# Altium integrated library CFR16J1K0.IntLib: 1 symbol
Pins are listed as number, name and electrical type; pins without a type are passive.

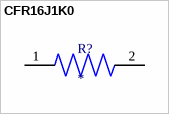
[diagram p0: symbol CFR16J1K0]

## CFR16J1K0
designator R?
1 kOhms Â±5% 0.25W, 1/4W Through Hole Resistor Axial - Carbon Film; MP: CFR16J1K0; MF: TE Connectivity Passive Product; Purchase-URL: https://pricing.snapeda.com/search/part/CFR16J1K0/?ref=eda; Package: Axial TE Connectivity Passive Product; SnapEDA_Link: https://www.snapeda.com/parts/CFR16J1K0/TE+Connectivity/view-part/?ref=snap; Price: None; Availability: In Stock; Value: *; Check_prices: https://www.snapeda.com/parts/CFR16J1K0/TE+Connectivity/view-part/?ref=eda
footprint RESAD700W45L350D185
pins: 1, 2